# Altium integrated library Components - 23.04.26 - 15.08.IntLib: 1 symbol
Pins are listed as number, name and electrical type; pins without a type are passive.

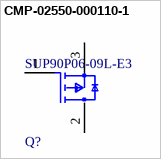
[diagram p0: symbol CMP-02550-000110-1]

## CMP-02550-000110-1
designator Q?, comment SUP90P06-09L-E3
MOSFET P-CH 60V 90A TO220AB; Manufacturer: Vishay; Pulse Drain Current: -200A; Turn Off Delay Time: 140ns; Depletion Mode: False; Standoff Height: 3.32mm; Turn On Delay Time: 20ns; Typ Forward Diode Voltage: -1V; Gate To Source Voltage: 20V; Reverse Recovery Charge: 90nC; Input Capacitace At Vds: 9200pF @ -25V; Continuous Drain Current: -90A; Drain To Source Voltage: -60V; Max Forward Diode Voltage: -1.5V; Gate Charge At Vgs: 160nC @ -10V; Max Junction Temp: +175°C; Drain To Source Resistance: 0.0074Ω; Power Dissipation: 2.4W; Threshold Vgs Max: -3V; Rthja Max: 62°C/W; Number Of P Channels: 1; Reverse Recovery Time: 60ns; Device Class L3: MOSFETs; Lead Free: Yes; Automotive: No; Temperature Range Low: -55°C; ComponentLink2URL: http://www.vishay.com/docs/73010/sup40p10.pdf; ComponentLink2Description: Datasheet; Device Class L2: Transistors; Manufacturer Part Number: SUP90P06-09L-E3; Octopart: https://octopart.com/sup90p06-09l-e3-vishay-40867561; Package: T14-0413; Mouser Description: Single P-Channel 60 V 0.0093 Ohms Flange Mount Power Mosfet - TO-220AB; Drain To Source Breakdown Voltage: -60V; RoHS: TRUE; Category: Trans; Device Class L1: Discrete Semiconductors; Height: 19.31mm; Number Of Channels: 1; Threshold Vgs Min: -1V; Temperature Range High: +175°C; Temperature: -55°C to +175°C; Digikey Description: MOSFET P-CH 60V 90A TO220AB
footprint FP-T14-0413-MFG
pins: 1 G, 2 D, 3 S